# Altium integrated library Allegro Sensor Hall-Effect Sensor.IntLib: 112 symbols (part 1 of 2)
Pins are listed as number, name and electrical type; pins without a type are passive.

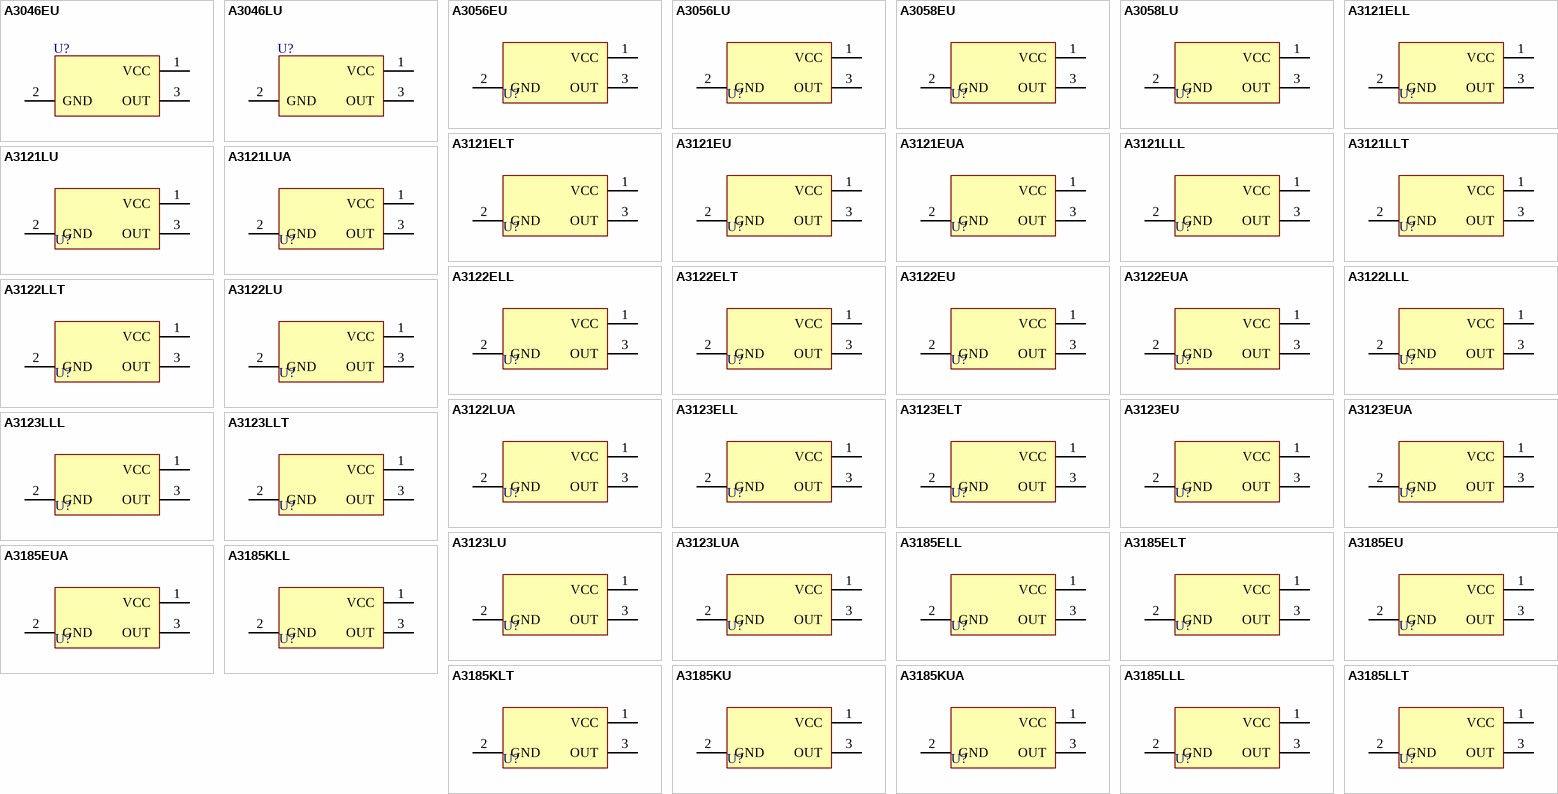
[diagram p0: symbols A3046EU to A3185LLT]

## A3046EU
designator U?
Hall-Effect Gear-Tooth Zero Speed Sensor; ComponentAvailability: Obsolete; Published: 13-Oct-2000; LatestRevisionDate: 17-Jul-2002; LatestRevisionNote: Re-released for DXP Platform.; DatasheetVersion: 1995; PackageVersion: 1995; PackageReference: U3; Publisher: Altium Limited; PackageDescription: SIP; 3 Leads; Body 4.5 x 4.6 x 1.6 mm (typ); Pitch 1.27 mm; ComponentLink1Description: Manufacturer Link; ComponentLink1URL: http://www.allegromicro.com/; ComponentLink2Description: Datasheet; ComponentLink2URL: http://www.allegromicro.com/datafile/archive/3046.pdf
footprint U3 (SIP; 3 Leads; Body 4.5 x 4.6 x 1.6 mm (typ); Pitch 1.27 mm)
pins: 1 VCC (power), 2 GND (power), 3 OUT (oc)

## A3046LU
designator U?
Hall-Effect Gear-Tooth Zero Speed Sensor; ComponentAvailability: Obsolete; Published: 13-Oct-2000; LatestRevisionDate: 17-Jul-2002; LatestRevisionNote: Re-released for DXP Platform.; DatasheetVersion: 1995; PackageVersion: 1995; PackageReference: U3; Publisher: Altium Limited; PackageDescription: SIP; 3 Leads; Body 4.5 x 4.6 x 1.6 mm (typ); Pitch 1.27 mm; ComponentLink1Description: Manufacturer Link; ComponentLink1URL: http://www.allegromicro.com/; ComponentLink2Description: Datasheet; ComponentLink2URL: http://www.allegromicro.com/datafile/archive/3046.pdf
footprint U3 (SIP; 3 Leads; Body 4.5 x 4.6 x 1.6 mm (typ); Pitch 1.27 mm)
pins: 1 VCC (power), 2 GND (power), 3 OUT (oc)

## A3056EU
designator U?
Hall-Effect Gear-Tooth Zero Speed Sensor; ComponentAvailability: Obsolete; Published: 13-Oct-2000; LatestRevisionDate: 17-Jul-2002; LatestRevisionNote: Re-released for DXP Platform.; DatasheetVersion: 1995; PackageVersion: 1995; PackageReference: U3; Publisher: Altium Limited; PackageDescription: SIP; 3 Leads; Body 4.5 x 4.6 x 1.6 mm (typ); Pitch 1.27 mm; ComponentLink1Description: Manufacturer Link; ComponentLink1URL: http://www.allegromicro.com/; ComponentLink2Description: Datasheet; ComponentLink2URL: http://www.allegromicro.com/datafile/archive/3046.pdf
footprint U3 (SIP; 3 Leads; Body 4.5 x 4.6 x 1.6 mm (typ); Pitch 1.27 mm)
pins: 1 VCC (power), 2 GND (power), 3 OUT (oc)

## A3056LU
designator U?
Hall-Effect Gear-Tooth Zero Speed Sensor; ComponentAvailability: Obsolete; Published: 13-Oct-2000; LatestRevisionDate: 17-Jul-2002; LatestRevisionNote: Re-released for DXP Platform.; DatasheetVersion: 1995; PackageVersion: 1995; PackageReference: U3; Publisher: Altium Limited; PackageDescription: SIP; 3 Leads; Body 4.5 x 4.6 x 1.6 mm (typ); Pitch 1.27 mm; ComponentLink1Description: Manufacturer Link; ComponentLink1URL: http://www.allegromicro.com/; ComponentLink2Description: Datasheet; ComponentLink2URL: http://www.allegromicro.com/datafile/archive/3046.pdf
footprint U3 (SIP; 3 Leads; Body 4.5 x 4.6 x 1.6 mm (typ); Pitch 1.27 mm)
pins: 1 VCC (power), 2 GND (power), 3 OUT (oc)

## A3058EU
designator U?
Hall-Effect Gear-Tooth Zero Speed Sensor; ComponentAvailability: Obsolete; Published: 13-Oct-2000; LatestRevisionDate: 17-Jul-2002; LatestRevisionNote: Re-released for DXP Platform.; DatasheetVersion: 1995; PackageVersion: 1995; PackageReference: U3; Publisher: Altium Limited; PackageDescription: SIP; 3 Leads; Body 4.5 x 4.6 x 1.6 mm (typ); Pitch 1.27 mm; ComponentLink1Description: Manufacturer Link; ComponentLink1URL: http://www.allegromicro.com/; ComponentLink2Description: Datasheet; ComponentLink2URL: http://www.allegromicro.com/datafile/archive/3046.pdf
footprint U3 (SIP; 3 Leads; Body 4.5 x 4.6 x 1.6 mm (typ); Pitch 1.27 mm)
pins: 1 VCC (power), 2 GND (power), 3 OUT (oc)

## A3058LU
designator U?
Hall-Effect Gear-Tooth Zero Speed Sensor; ComponentAvailability: Obsolete; Published: 13-Oct-2000; LatestRevisionDate: 17-Jul-2002; LatestRevisionNote: Re-released for DXP Platform.; DatasheetVersion: 1995; PackageVersion: 1995; PackageReference: U3; Publisher: Altium Limited; PackageDescription: SIP; 3 Leads; Body 4.5 x 4.6 x 1.6 mm (typ); Pitch 1.27 mm; ComponentLink1Description: Manufacturer Link; ComponentLink1URL: http://www.allegromicro.com/; ComponentLink2Description: Datasheet; ComponentLink2URL: http://www.allegromicro.com/datafile/archive/3046.pdf
footprint U3 (SIP; 3 Leads; Body 4.5 x 4.6 x 1.6 mm (typ); Pitch 1.27 mm)
pins: 1 VCC (power), 2 GND (power), 3 OUT (oc)

## A3121ELL
designator U?
Hall-Effect Switch for High-Temperature Operation; ComponentAvailability: Not for New Design; Published: 13-Oct-2000; LatestRevisionDate: 17-Jul-2002; LatestRevisionNote: Re-released for DXP Platform.; DatasheetVersion: 1995; PackageVersion: 1995; PackageReference: LL3; Publisher: Altium Limited; PackageDescription: SOT-89; Body 4.6 x 18.5 mm, inc. leads (LxW max); ComponentLink1Description: Manufacturer Link; ComponentLink1URL: http://www.allegromicro.com/; ComponentLink2Description: Datasheet; ComponentLink2URL: http://www.allegromicro.com/datafile/3121.pdf; ComponentLink3Description: Discontinuation Notice; ComponentLink3URL: http://www.allegromicro.com/sf/3121/
footprint LL3 (SOT-89; Body 4.6 x 18.5 mm, inc. leads (LxW max))
pins: 1 VCC (power), 2 GND (power), 3 OUT (oc)

## A3121ELT
designator U?
Hall-Effect Switch for High-Temperature Operation; ComponentAvailability: Not for New Design; Published: 13-Oct-2000; LatestRevisionDate: 17-Jul-2002; LatestRevisionNote: Re-released for DXP Platform.; DatasheetVersion: 1995; PackageVersion: 1995; PackageReference: LT3; Publisher: Altium Limited; PackageDescription: SOT-89; Body 4.6 x 4.25 mm, inc. leads (LxW max); Code_JEDEC: TO-243-AA; Code_IPC: SOT 89; ComponentLink1Description: Manufacturer Link; ComponentLink1URL: http://www.allegromicro.com/; ComponentLink2Description: Datasheet; ComponentLink2URL: http://www.allegromicro.com/datafile/3121.pdf; ComponentLink3Description: Discontinuation Notice; ComponentLink3URL: http://www.allegromicro.com/sf/3121/
footprint LT3 (SOT-89; Body 4.6 x 4.25 mm, inc. leads (LxW max))
pins: 1 VCC (power), 2 GND (power), 3 OUT (oc)

## A3121EU
designator U?
Hall-Effect Switch for High-Temperature Operation; ComponentAvailability: Not for New Design; Published: 13-Oct-2000; LatestRevisionDate: 17-Jul-2002; LatestRevisionNote: Re-released for DXP Platform.; DatasheetVersion: 1995; PackageVersion: 1995; PackageReference: U3; Publisher: Altium Limited; PackageDescription: SIP; 3 Leads; Body 4.5 x 4.6 x 1.6 mm (typ); Pitch 1.27 mm; ComponentLink1Description: Manufacturer Link; ComponentLink1URL: http://www.allegromicro.com/; ComponentLink2Description: Datasheet; ComponentLink2URL: http://www.allegromicro.com/datafile/3121.pdf; ComponentLink3Description: Discontinuation Notice; ComponentLink3URL: http://www.allegromicro.com/sf/3121/
footprint U3 (SIP; 3 Leads; Body 4.5 x 4.6 x 1.6 mm (typ); Pitch 1.27 mm)
pins: 1 VCC (power), 2 GND (power), 3 OUT (oc)

## A3121EUA
designator U?
Hall-Effect Switch for High-Temperature Operation; ComponentAvailability: Not for New Design; Published: 13-Oct-2000; LatestRevisionDate: 17-Jul-2002; LatestRevisionNote: Re-released for DXP Platform.; DatasheetVersion: 1995; PackageVersion: 1995; PackageReference: UA3; Publisher: Altium Limited; PackageDescription: SIP; 3 Leads; Body 3 x 4 x 1.5 mm (typ); Pitch 1.27 mm; ComponentLink1Description: Manufacturer Link; ComponentLink1URL: http://www.allegromicro.com/; ComponentLink2Description: Datasheet; ComponentLink2URL: http://www.allegromicro.com/datafile/3121.pdf; ComponentLink3Description: Discontinuation Notice; ComponentLink3URL: http://www.allegromicro.com/sf/3121/
footprint UA3 (SIP; 3 Leads; Body 3 x 4 x 1.5 mm (typ); Pitch 1.27 mm)
pins: 1 VCC (power), 2 GND (power), 3 OUT (oc)

## A3121LLL
designator U?
Hall-Effect Switch for High-Temperature Operation; ComponentAvailability: Not for New Design; Published: 13-Oct-2000; LatestRevisionDate: 17-Jul-2002; LatestRevisionNote: Re-released for DXP Platform.; DatasheetVersion: 1995; PackageVersion: 1995; PackageReference: LL3; Publisher: Altium Limited; PackageDescription: SOT-89; Body 4.6 x 18.5 mm, inc. leads (LxW max); ComponentLink1Description: Manufacturer Link; ComponentLink1URL: http://www.allegromicro.com/; ComponentLink2Description: Datasheet; ComponentLink2URL: http://www.allegromicro.com/datafile/3121.pdf; ComponentLink3Description: Discontinuation Notice; ComponentLink3URL: http://www.allegromicro.com/sf/3121/
footprint LL3 (SOT-89; Body 4.6 x 18.5 mm, inc. leads (LxW max))
pins: 1 VCC (power), 2 GND (power), 3 OUT (oc)

## A3121LLT
designator U?
Hall-Effect Switch for High-Temperature Operation; ComponentAvailability: Not for New Design; Published: 13-Oct-2000; LatestRevisionDate: 17-Jul-2002; LatestRevisionNote: Re-released for DXP Platform.; DatasheetVersion: 1995; PackageVersion: 1995; PackageReference: LT3; Publisher: Altium Limited; PackageDescription: SOT-89; Body 4.6 x 4.25 mm, inc. leads (LxW max); Code_JEDEC: TO-243-AA; Code_IPC: SOT 89; ComponentLink1Description: Manufacturer Link; ComponentLink1URL: http://www.allegromicro.com/; ComponentLink2Description: Datasheet; ComponentLink2URL: http://www.allegromicro.com/datafile/3121.pdf; ComponentLink3Description: Discontinuation Notice; ComponentLink3URL: http://www.allegromicro.com/sf/3121/
footprint LT3 (SOT-89; Body 4.6 x 4.25 mm, inc. leads (LxW max))
pins: 1 VCC (power), 2 GND (power), 3 OUT (oc)

## A3121LU
designator U?
Hall-Effect Switch for High-Temperature Operation; ComponentAvailability: Not for New Design; Published: 13-Oct-2000; LatestRevisionDate: 17-Jul-2002; LatestRevisionNote: Re-released for DXP Platform.; DatasheetVersion: 1995; PackageVersion: 1995; PackageReference: U3; Publisher: Altium Limited; PackageDescription: SIP; 3 Leads; Body 4.5 x 4.6 x 1.6 mm (typ); Pitch 1.27 mm; ComponentLink1Description: Manufacturer Link; ComponentLink1URL: http://www.allegromicro.com/; ComponentLink2Description: Datasheet; ComponentLink2URL: http://www.allegromicro.com/datafile/3121.pdf; ComponentLink3Description: Discontinuation Notice; ComponentLink3URL: http://www.allegromicro.com/sf/3121/
footprint U3 (SIP; 3 Leads; Body 4.5 x 4.6 x 1.6 mm (typ); Pitch 1.27 mm)
pins: 1 VCC (power), 2 GND (power), 3 OUT (oc)

## A3121LUA
designator U?
Hall-Effect Switch for High-Temperature Operation; ComponentAvailability: Not for New Design; Published: 13-Oct-2000; LatestRevisionDate: 17-Jul-2002; LatestRevisionNote: Re-released for DXP Platform.; DatasheetVersion: 1995; PackageVersion: 1995; PackageReference: UA3; Publisher: Altium Limited; PackageDescription: SIP; 3 Leads; Body 3 x 4 x 1.5 mm (typ); Pitch 1.27 mm; ComponentLink1Description: Manufacturer Link; ComponentLink1URL: http://www.allegromicro.com/; ComponentLink2Description: Datasheet; ComponentLink2URL: http://www.allegromicro.com/datafile/3121.pdf; ComponentLink3Description: Discontinuation Notice; ComponentLink3URL: http://www.allegromicro.com/sf/3121/
footprint UA3 (SIP; 3 Leads; Body 3 x 4 x 1.5 mm (typ); Pitch 1.27 mm)
pins: 1 VCC (power), 2 GND (power), 3 OUT (oc)

## A3122ELL
designator U?
Hall-Effect Switch for High-Temperature Operation; ComponentAvailability: Not for New Design; Published: 13-Oct-2000; LatestRevisionDate: 17-Jul-2002; LatestRevisionNote: Re-released for DXP Platform.; DatasheetVersion: 1995; PackageVersion: 1995; PackageReference: LL3; Publisher: Altium Limited; PackageDescription: SOT-89; Body 4.6 x 18.5 mm, inc. leads (LxW max); ComponentLink1Description: Manufacturer Link; ComponentLink1URL: http://www.allegromicro.com/; ComponentLink2Description: Datasheet; ComponentLink2URL: http://www.allegromicro.com/datafile/3121.pdf; ComponentLink3Description: Discontinuation Notice; ComponentLink3URL: http://www.allegromicro.com/sf/3121/
footprint LL3 (SOT-89; Body 4.6 x 18.5 mm, inc. leads (LxW max))
pins: 1 VCC (power), 2 GND (power), 3 OUT (oc)

## A3122ELT
designator U?
Hall-Effect Switch for High-Temperature Operation; ComponentAvailability: Not for New Design; Published: 13-Oct-2000; LatestRevisionDate: 17-Jul-2002; LatestRevisionNote: Re-released for DXP Platform.; DatasheetVersion: 1995; PackageVersion: 1995; PackageReference: LT3; Publisher: Altium Limited; PackageDescription: SOT-89; Body 4.6 x 4.25 mm, inc. leads (LxW max); Code_JEDEC: TO-243-AA; Code_IPC: SOT 89; ComponentLink1Description: Manufacturer Link; ComponentLink1URL: http://www.allegromicro.com/; ComponentLink2Description: Datasheet; ComponentLink2URL: http://www.allegromicro.com/datafile/3121.pdf; ComponentLink3Description: Discontinuation Notice; ComponentLink3URL: http://www.allegromicro.com/sf/3121/
footprint LT3 (SOT-89; Body 4.6 x 4.25 mm, inc. leads (LxW max))
pins: 1 VCC (power), 2 GND (power), 3 OUT (oc)

## A3122EU
designator U?
Hall-Effect Switch for High-Temperature Operation; ComponentAvailability: Not for New Design; Published: 13-Oct-2000; LatestRevisionDate: 17-Jul-2002; LatestRevisionNote: Re-released for DXP Platform.; DatasheetVersion: 1995; PackageVersion: 1995; PackageReference: U3; Publisher: Altium Limited; PackageDescription: SIP; 3 Leads; Body 4.5 x 4.6 x 1.6 mm (typ); Pitch 1.27 mm; ComponentLink1Description: Manufacturer Link; ComponentLink1URL: http://www.allegromicro.com/; ComponentLink2Description: Datasheet; ComponentLink2URL: http://www.allegromicro.com/datafile/3121.pdf; ComponentLink3Description: Discontinuation Notice; ComponentLink3URL: http://www.allegromicro.com/sf/3121/
footprint U3 (SIP; 3 Leads; Body 4.5 x 4.6 x 1.6 mm (typ); Pitch 1.27 mm)
pins: 1 VCC (power), 2 GND (power), 3 OUT (oc)

## A3122EUA
designator U?
Hall-Effect Switch for High-Temperature Operation; ComponentAvailability: Not for New Design; Published: 13-Oct-2000; LatestRevisionDate: 17-Jul-2002; LatestRevisionNote: Re-released for DXP Platform.; DatasheetVersion: 1995; PackageVersion: 1995; PackageReference: UA3; Publisher: Altium Limited; PackageDescription: SIP; 3 Leads; Body 3 x 4 x 1.5 mm (typ); Pitch 1.27 mm; ComponentLink1Description: Manufacturer Link; ComponentLink1URL: http://www.allegromicro.com/; ComponentLink2Description: Datasheet; ComponentLink2URL: http://www.allegromicro.com/datafile/3121.pdf; ComponentLink3Description: Discontinuation Notice; ComponentLink3URL: http://www.allegromicro.com/sf/3121/
footprint UA3 (SIP; 3 Leads; Body 3 x 4 x 1.5 mm (typ); Pitch 1.27 mm)
pins: 1 VCC (power), 2 GND (power), 3 OUT (oc)

## A3122LLL
designator U?
Hall-Effect Switch for High-Temperature Operation; ComponentAvailability: Not for New Design; Published: 13-Oct-2000; LatestRevisionDate: 17-Jul-2002; LatestRevisionNote: Re-released for DXP Platform.; DatasheetVersion: 1995; PackageVersion: 1995; PackageReference: LL3; Publisher: Altium Limited; PackageDescription: SOT-89; Body 4.6 x 18.5 mm, inc. leads (LxW max); ComponentLink1Description: Manufacturer Link; ComponentLink1URL: http://www.allegromicro.com/; ComponentLink2Description: Datasheet; ComponentLink2URL: http://www.allegromicro.com/datafile/3121.pdf; ComponentLink3Description: Discontinuation Notice; ComponentLink3URL: http://www.allegromicro.com/sf/3121/
footprint LL3 (SOT-89; Body 4.6 x 18.5 mm, inc. leads (LxW max))
pins: 1 VCC (power), 2 GND (power), 3 OUT (oc)

## A3122LLT
designator U?
Hall-Effect Switch for High-Temperature Operation; ComponentAvailability: Not for New Design; Published: 13-Oct-2000; LatestRevisionDate: 17-Jul-2002; LatestRevisionNote: Re-released for DXP Platform.; DatasheetVersion: 1995; PackageVersion: 1995; PackageReference: LT3; Publisher: Altium Limited; PackageDescription: SOT-89; Body 4.6 x 4.25 mm, inc. leads (LxW max); Code_JEDEC: TO-243-AA; Code_IPC: SOT 89; ComponentLink1Description: Manufacturer Link; ComponentLink1URL: http://www.allegromicro.com/; ComponentLink2Description: Datasheet; ComponentLink2URL: http://www.allegromicro.com/datafile/3121.pdf; ComponentLink3Description: Discontinuation Notice; ComponentLink3URL: http://www.allegromicro.com/sf/3121/
footprint LT3 (SOT-89; Body 4.6 x 4.25 mm, inc. leads (LxW max))
pins: 1 VCC (power), 2 GND (power), 3 OUT (oc)

## A3122LU
designator U?
Hall-Effect Switch for High-Temperature Operation; ComponentAvailability: Not for New Design; Published: 13-Oct-2000; LatestRevisionDate: 17-Jul-2002; LatestRevisionNote: Re-released for DXP Platform.; DatasheetVersion: 1995; PackageVersion: 1995; PackageReference: U3; Publisher: Altium Limited; PackageDescription: SIP; 3 Leads; Body 4.5 x 4.6 x 1.6 mm (typ); Pitch 1.27 mm; ComponentLink1Description: Manufacturer Link; ComponentLink1URL: http://www.allegromicro.com/; ComponentLink2Description: Datasheet; ComponentLink2URL: http://www.allegromicro.com/datafile/3121.pdf; ComponentLink3Description: Discontinuation Notice; ComponentLink3URL: http://www.allegromicro.com/sf/3121/
footprint U3 (SIP; 3 Leads; Body 4.5 x 4.6 x 1.6 mm (typ); Pitch 1.27 mm)
pins: 1 VCC (power), 2 GND (power), 3 OUT (oc)

## A3122LUA
designator U?
Hall-Effect Switch for High-Temperature Operation; ComponentAvailability: Not for New Design; Published: 13-Oct-2000; LatestRevisionDate: 17-Jul-2002; LatestRevisionNote: Re-released for DXP Platform.; DatasheetVersion: 1995; PackageVersion: 1995; PackageReference: UA3; Publisher: Altium Limited; PackageDescription: SIP; 3 Leads; Body 3 x 4 x 1.5 mm (typ); Pitch 1.27 mm; ComponentLink1Description: Manufacturer Link; ComponentLink1URL: http://www.allegromicro.com/; ComponentLink2Description: Datasheet; ComponentLink2URL: http://www.allegromicro.com/datafile/3121.pdf; ComponentLink3Description: Discontinuation Notice; ComponentLink3URL: http://www.allegromicro.com/sf/3121/
footprint UA3 (SIP; 3 Leads; Body 3 x 4 x 1.5 mm (typ); Pitch 1.27 mm)
pins: 1 VCC (power), 2 GND (power), 3 OUT (oc)

## A3123ELL
designator U?
Hall-Effect Switch for High-Temperature Operation; ComponentAvailability: Not for New Design; Published: 13-Oct-2000; LatestRevisionDate: 17-Jul-2002; LatestRevisionNote: Re-released for DXP Platform.; DatasheetVersion: 1995; PackageVersion: 1995; PackageReference: LL3; Publisher: Altium Limited; PackageDescription: SOT-89; Body 4.6 x 18.5 mm, inc. leads (LxW max); ComponentLink1Description: Manufacturer Link; ComponentLink1URL: http://www.allegromicro.com/; ComponentLink2Description: Datasheet; ComponentLink2URL: http://www.allegromicro.com/datafile/3121.pdf; ComponentLink3Description: Discontinuation Notice; ComponentLink3URL: http://www.allegromicro.com/sf/3121/
footprint LL3 (SOT-89; Body 4.6 x 18.5 mm, inc. leads (LxW max))
pins: 1 VCC (power), 2 GND (power), 3 OUT (oc)

## A3123ELT
designator U?
Hall-Effect Switch for High-Temperature Operation; ComponentAvailability: Not for New Design; Published: 13-Oct-2000; LatestRevisionDate: 17-Jul-2002; LatestRevisionNote: Re-released for DXP Platform.; DatasheetVersion: 1995; PackageVersion: 1995; PackageReference: LT3; Publisher: Altium Limited; PackageDescription: SOT-89; Body 4.6 x 4.25 mm, inc. leads (LxW max); Code_JEDEC: TO-243-AA; Code_IPC: SOT 89; ComponentLink1Description: Manufacturer Link; ComponentLink1URL: http://www.allegromicro.com/; ComponentLink2Description: Datasheet; ComponentLink2URL: http://www.allegromicro.com/datafile/3121.pdf; ComponentLink3Description: Discontinuation Notice; ComponentLink3URL: http://www.allegromicro.com/sf/3121/
footprint LT3 (SOT-89; Body 4.6 x 4.25 mm, inc. leads (LxW max))
pins: 1 VCC (power), 2 GND (power), 3 OUT (oc)

## A3123EU
designator U?
Hall-Effect Switch for High-Temperature Operation; ComponentAvailability: Not for New Design; Published: 13-Oct-2000; LatestRevisionDate: 17-Jul-2002; LatestRevisionNote: Re-released for DXP Platform.; DatasheetVersion: 1995; PackageVersion: 1995; PackageReference: U3; Publisher: Altium Limited; PackageDescription: SIP; 3 Leads; Body 4.5 x 4.6 x 1.6 mm (typ); Pitch 1.27 mm; ComponentLink1Description: Manufacturer Link; ComponentLink1URL: http://www.allegromicro.com/; ComponentLink2Description: Datasheet; ComponentLink2URL: http://www.allegromicro.com/datafile/3121.pdf; ComponentLink3Description: Discontinuation Notice; ComponentLink3URL: http://www.allegromicro.com/sf/3121/
footprint U3 (SIP; 3 Leads; Body 4.5 x 4.6 x 1.6 mm (typ); Pitch 1.27 mm)
pins: 1 VCC (power), 2 GND (power), 3 OUT (oc)

## A3123EUA
designator U?
Hall-Effect Switch for High-Temperature Operation; ComponentAvailability: Not for New Design; Published: 13-Oct-2000; LatestRevisionDate: 17-Jul-2002; LatestRevisionNote: Re-released for DXP Platform.; DatasheetVersion: 1995; PackageVersion: 1995; PackageReference: UA3; Publisher: Altium Limited; PackageDescription: SIP; 3 Leads; Body 3 x 4 x 1.5 mm (typ); Pitch 1.27 mm; ComponentLink1Description: Manufacturer Link; ComponentLink1URL: http://www.allegromicro.com/; ComponentLink2Description: Datasheet; ComponentLink2URL: http://www.allegromicro.com/datafile/3121.pdf; ComponentLink3Description: Discontinuation Notice; ComponentLink3URL: http://www.allegromicro.com/sf/3121/
footprint UA3 (SIP; 3 Leads; Body 3 x 4 x 1.5 mm (typ); Pitch 1.27 mm)
pins: 1 VCC (power), 2 GND (power), 3 OUT (oc)

## A3123LLL
designator U?
Hall-Effect Switch for High-Temperature Operation; ComponentAvailability: Not for New Design; Published: 13-Oct-2000; LatestRevisionDate: 17-Jul-2002; LatestRevisionNote: Re-released for DXP Platform.; DatasheetVersion: 1995; PackageVersion: 1995; PackageReference: LL3; Publisher: Altium Limited; PackageDescription: SOT-89; Body 4.6 x 18.5 mm, inc. leads (LxW max); ComponentLink1Description: Manufacturer Link; ComponentLink1URL: http://www.allegromicro.com/; ComponentLink2Description: Datasheet; ComponentLink2URL: http://www.allegromicro.com/datafile/3121.pdf; ComponentLink3Description: Discontinuation Notice; ComponentLink3URL: http://www.allegromicro.com/sf/3121/
footprint LL3 (SOT-89; Body 4.6 x 18.5 mm, inc. leads (LxW max))
pins: 1 VCC (power), 2 GND (power), 3 OUT (oc)

## A3123LLT
designator U?
Hall-Effect Switch for High-Temperature Operation; ComponentAvailability: Not for New Design; Published: 13-Oct-2000; LatestRevisionDate: 17-Jul-2002; LatestRevisionNote: Re-released for DXP Platform.; DatasheetVersion: 1995; PackageVersion: 1995; PackageReference: LT3; Publisher: Altium Limited; PackageDescription: SOT-89; Body 4.6 x 4.25 mm, inc. leads (LxW max); Code_JEDEC: TO-243-AA; Code_IPC: SOT 89; ComponentLink1Description: Manufacturer Link; ComponentLink1URL: http://www.allegromicro.com/; ComponentLink2Description: Datasheet; ComponentLink2URL: http://www.allegromicro.com/datafile/3121.pdf; ComponentLink3Description: Discontinuation Notice; ComponentLink3URL: http://www.allegromicro.com/sf/3121/
footprint LT3 (SOT-89; Body 4.6 x 4.25 mm, inc. leads (LxW max))
pins: 1 VCC (power), 2 GND (power), 3 OUT (oc)

## A3123LU
designator U?
Hall-Effect Switch for High-Temperature Operation; ComponentAvailability: Not for New Design; Published: 13-Oct-2000; LatestRevisionDate: 17-Jul-2002; LatestRevisionNote: Re-released for DXP Platform.; DatasheetVersion: 1995; PackageVersion: 1995; PackageReference: U3; Publisher: Altium Limited; PackageDescription: SIP; 3 Leads; Body 4.5 x 4.6 x 1.6 mm (typ); Pitch 1.27 mm; ComponentLink1Description: Manufacturer Link; ComponentLink1URL: http://www.allegromicro.com/; ComponentLink2Description: Datasheet; ComponentLink2URL: http://www.allegromicro.com/datafile/3121.pdf; ComponentLink3Description: Discontinuation Notice; ComponentLink3URL: http://www.allegromicro.com/sf/3121/
footprint U3 (SIP; 3 Leads; Body 4.5 x 4.6 x 1.6 mm (typ); Pitch 1.27 mm)
pins: 1 VCC (power), 2 GND (power), 3 OUT (oc)

## A3123LUA
designator U?
Hall-Effect Switch for High-Temperature Operation; ComponentAvailability: Not for New Design; Published: 13-Oct-2000; LatestRevisionDate: 17-Jul-2002; LatestRevisionNote: Re-released for DXP Platform.; DatasheetVersion: 1995; PackageVersion: 1995; PackageReference: UA3; Publisher: Altium Limited; PackageDescription: SIP; 3 Leads; Body 3 x 4 x 1.5 mm (typ); Pitch 1.27 mm; ComponentLink1Description: Manufacturer Link; ComponentLink1URL: http://www.allegromicro.com/; ComponentLink2Description: Datasheet; ComponentLink2URL: http://www.allegromicro.com/datafile/3121.pdf; ComponentLink3Description: Discontinuation Notice; ComponentLink3URL: http://www.allegromicro.com/sf/3121/
footprint UA3 (SIP; 3 Leads; Body 3 x 4 x 1.5 mm (typ); Pitch 1.27 mm)
pins: 1 VCC (power), 2 GND (power), 3 OUT (oc)

## A3185ELL
designator U?
Hall-Effect Latch for High-Temperature Operation; ComponentAvailability: Not for New Design; Published: 13-Oct-2000; LatestRevisionDate: 17-Jul-2002; LatestRevisionNote: Re-released for DXP Platform.; DatasheetVersion: 1995; PackageVersion: 1995; PackageReference: LL3; Publisher: Altium Limited; PackageDescription: SOT-89; Body 4.6 x 18.5 mm, inc. leads (LxW max); ComponentLink1Description: Manufacturer Link; ComponentLink1URL: http://www.allegromicro.com/; ComponentLink2Description: Datasheet; ComponentLink2URL: http://www.allegromicro.com/datafile/3185.pdf; ComponentLink3Description: Discontinuation Notice; ComponentLink3URL: http://www.allegromicro.com/sf/3185/
footprint LL3 (SOT-89; Body 4.6 x 18.5 mm, inc. leads (LxW max))
pins: 1 VCC (power), 2 GND (power), 3 OUT (oc)

## A3185ELT
designator U?
Hall-Effect Latch for High-Temperature Operation; ComponentAvailability: Not for New Design; Published: 13-Oct-2000; LatestRevisionDate: 17-Jul-2002; LatestRevisionNote: Re-released for DXP Platform.; DatasheetVersion: 1995; PackageVersion: 1995; PackageReference: LT3; Publisher: Altium Limited; PackageDescription: SOT-89; Body 4.6 x 4.25 mm, inc. leads (LxW max); Code_JEDEC: TO-243-AA; Code_IPC: SOT 89; ComponentLink1Description: Manufacturer Link; ComponentLink1URL: http://www.allegromicro.com/; ComponentLink2Description: Datasheet; ComponentLink2URL: http://www.allegromicro.com/datafile/3185.pdf; ComponentLink3Description: Discontinuation Notice; ComponentLink3URL: http://www.allegromicro.com/sf/3185/
footprint LT3 (SOT-89; Body 4.6 x 4.25 mm, inc. leads (LxW max))
pins: 1 VCC (power), 2 GND (power), 3 OUT (oc)

## A3185EU
designator U?
Hall-Effect Latch for High-Temperature Operation; ComponentAvailability: Not for New Design; Published: 13-Oct-2000; LatestRevisionDate: 17-Jul-2002; LatestRevisionNote: Re-released for DXP Platform.; DatasheetVersion: 1995; PackageVersion: 1995; PackageReference: U3; Publisher: Altium Limited; PackageDescription: SIP; 3 Leads; Body 4.5 x 4.6 x 1.6 mm (typ); Pitch 1.27 mm; ComponentLink1Description: Manufacturer Link; ComponentLink1URL: http://www.allegromicro.com/; ComponentLink2Description: Datasheet; ComponentLink2URL: http://www.allegromicro.com/datafile/3185.pdf; ComponentLink3Description: Discontinuation Notice; ComponentLink3URL: http://www.allegromicro.com/sf/3185/
footprint U3 (SIP; 3 Leads; Body 4.5 x 4.6 x 1.6 mm (typ); Pitch 1.27 mm)
pins: 1 VCC (power), 2 GND (power), 3 OUT (oc)

## A3185EUA
designator U?
Hall-Effect Latch for High-Temperature Operation; ComponentAvailability: Not for New Design; Published: 13-Oct-2000; LatestRevisionDate: 17-Jul-2002; LatestRevisionNote: Re-released for DXP Platform.; DatasheetVersion: 1995; PackageVersion: 1995; PackageReference: UA3; Publisher: Altium Limited; PackageDescription: SIP; 3 Leads; Body 3 x 4 x 1.5 mm (typ); Pitch 1.27 mm; ComponentLink1Description: Manufacturer Link; ComponentLink1URL: http://www.allegromicro.com/; ComponentLink2Description: Datasheet; ComponentLink2URL: http://www.allegromicro.com/datafile/3185.pdf; ComponentLink3Description: Discontinuation Notice; ComponentLink3URL: http://www.allegromicro.com/sf/3185/
footprint UA3 (SIP; 3 Leads; Body 3 x 4 x 1.5 mm (typ); Pitch 1.27 mm)
pins: 1 VCC (power), 2 GND (power), 3 OUT (oc)

## A3185KLL
designator U?
Hall-Effect Latch for High-Temperature Operation; ComponentAvailability: Not for New Design; Published: 13-Oct-2000; LatestRevisionDate: 17-Jul-2002; LatestRevisionNote: Re-released for DXP Platform.; DatasheetVersion: 1995; PackageVersion: 1995; PackageReference: LL3; Publisher: Altium Limited; PackageDescription: SOT-89; Body 4.6 x 18.5 mm, inc. leads (LxW max); ComponentLink1Description: Manufacturer Link; ComponentLink1URL: http://www.allegromicro.com/; ComponentLink2Description: Datasheet; ComponentLink2URL: http://www.allegromicro.com/datafile/3185.pdf; ComponentLink3Description: Discontinuation Notice; ComponentLink3URL: http://www.allegromicro.com/sf/3185/
footprint LL3 (SOT-89; Body 4.6 x 18.5 mm, inc. leads (LxW max))
pins: 1 VCC (power), 2 GND (power), 3 OUT (oc)

## A3185KLT
designator U?
Hall-Effect Latch for High-Temperature Operation; ComponentAvailability: Not for New Design; Published: 13-Oct-2000; LatestRevisionDate: 17-Jul-2002; LatestRevisionNote: Re-released for DXP Platform.; DatasheetVersion: 1995; PackageVersion: 1995; PackageReference: LT3; Publisher: Altium Limited; PackageDescription: SOT-89; Body 4.6 x 4.25 mm, inc. leads (LxW max); Code_JEDEC: TO-243-AA; Code_IPC: SOT 89; ComponentLink1Description: Manufacturer Link; ComponentLink1URL: http://www.allegromicro.com/; ComponentLink2Description: Datasheet; ComponentLink2URL: http://www.allegromicro.com/datafile/3185.pdf; ComponentLink3Description: Discontinuation Notice; ComponentLink3URL: http://www.allegromicro.com/sf/3185/
footprint LT3 (SOT-89; Body 4.6 x 4.25 mm, inc. leads (LxW max))
pins: 1 VCC (power), 2 GND (power), 3 OUT (oc)

## A3185KU
designator U?
Hall-Effect Latch for High-Temperature Operation; ComponentAvailability: Not for New Design; Published: 13-Oct-2000; LatestRevisionDate: 17-Jul-2002; LatestRevisionNote: Re-released for DXP Platform.; DatasheetVersion: 1995; PackageVersion: 1995; PackageReference: U3; Publisher: Altium Limited; PackageDescription: SIP; 3 Leads; Body 4.5 x 4.6 x 1.6 mm (typ); Pitch 1.27 mm; ComponentLink1Description: Manufacturer Link; ComponentLink1URL: http://www.allegromicro.com/; ComponentLink2Description: Datasheet; ComponentLink2URL: http://www.allegromicro.com/datafile/3185.pdf; ComponentLink3Description: Discontinuation Notice; ComponentLink3URL: http://www.allegromicro.com/sf/3185/
footprint U3 (SIP; 3 Leads; Body 4.5 x 4.6 x 1.6 mm (typ); Pitch 1.27 mm)
pins: 1 VCC (power), 2 GND (power), 3 OUT (oc)

## A3185KUA
designator U?
Hall-Effect Latch for High-Temperature Operation; ComponentAvailability: Not for New Design; Published: 13-Oct-2000; LatestRevisionDate: 17-Jul-2002; LatestRevisionNote: Re-released for DXP Platform.; DatasheetVersion: 1995; PackageVersion: 1995; PackageReference: UA3; Publisher: Altium Limited; PackageDescription: SIP; 3 Leads; Body 3 x 4 x 1.5 mm (typ); Pitch 1.27 mm; ComponentLink1Description: Manufacturer Link; ComponentLink1URL: http://www.allegromicro.com/; ComponentLink2Description: Datasheet; ComponentLink2URL: http://www.allegromicro.com/datafile/3185.pdf; ComponentLink3Description: Discontinuation Notice; ComponentLink3URL: http://www.allegromicro.com/sf/3185/
footprint UA3 (SIP; 3 Leads; Body 3 x 4 x 1.5 mm (typ); Pitch 1.27 mm)
pins: 1 VCC (power), 2 GND (power), 3 OUT (oc)

## A3185LLL
designator U?
Hall-Effect Latch for High-Temperature Operation; ComponentAvailability: Not for New Design; Published: 13-Oct-2000; LatestRevisionDate: 17-Jul-2002; LatestRevisionNote: Re-released for DXP Platform.; DatasheetVersion: 1995; PackageVersion: 1995; PackageReference: LL3; Publisher: Altium Limited; PackageDescription: SOT-89; Body 4.6 x 18.5 mm, inc. leads (LxW max); ComponentLink1Description: Manufacturer Link; ComponentLink1URL: http://www.allegromicro.com/; ComponentLink2Description: Datasheet; ComponentLink2URL: http://www.allegromicro.com/datafile/3185.pdf; ComponentLink3Description: Discontinuation Notice; ComponentLink3URL: http://www.allegromicro.com/sf/3185/
footprint LL3 (SOT-89; Body 4.6 x 18.5 mm, inc. leads (LxW max))
pins: 1 VCC (power), 2 GND (power), 3 OUT (oc)

## A3185LLT
designator U?
Hall-Effect Latch for High-Temperature Operation; ComponentAvailability: Not for New Design; Published: 13-Oct-2000; LatestRevisionDate: 17-Jul-2002; LatestRevisionNote: Re-released for DXP Platform.; DatasheetVersion: 1995; PackageVersion: 1995; PackageReference: LT3; Publisher: Altium Limited; PackageDescription: SOT-89; Body 4.6 x 4.25 mm, inc. leads (LxW max); Code_JEDEC: TO-243-AA; Code_IPC: SOT 89; ComponentLink1Description: Manufacturer Link; ComponentLink1URL: http://www.allegromicro.com/; ComponentLink2Description: Datasheet; ComponentLink2URL: http://www.allegromicro.com/datafile/3185.pdf; ComponentLink3Description: Discontinuation Notice; ComponentLink3URL: http://www.allegromicro.com/sf/3185/
footprint LT3 (SOT-89; Body 4.6 x 4.25 mm, inc. leads (LxW max))
pins: 1 VCC (power), 2 GND (power), 3 OUT (oc)

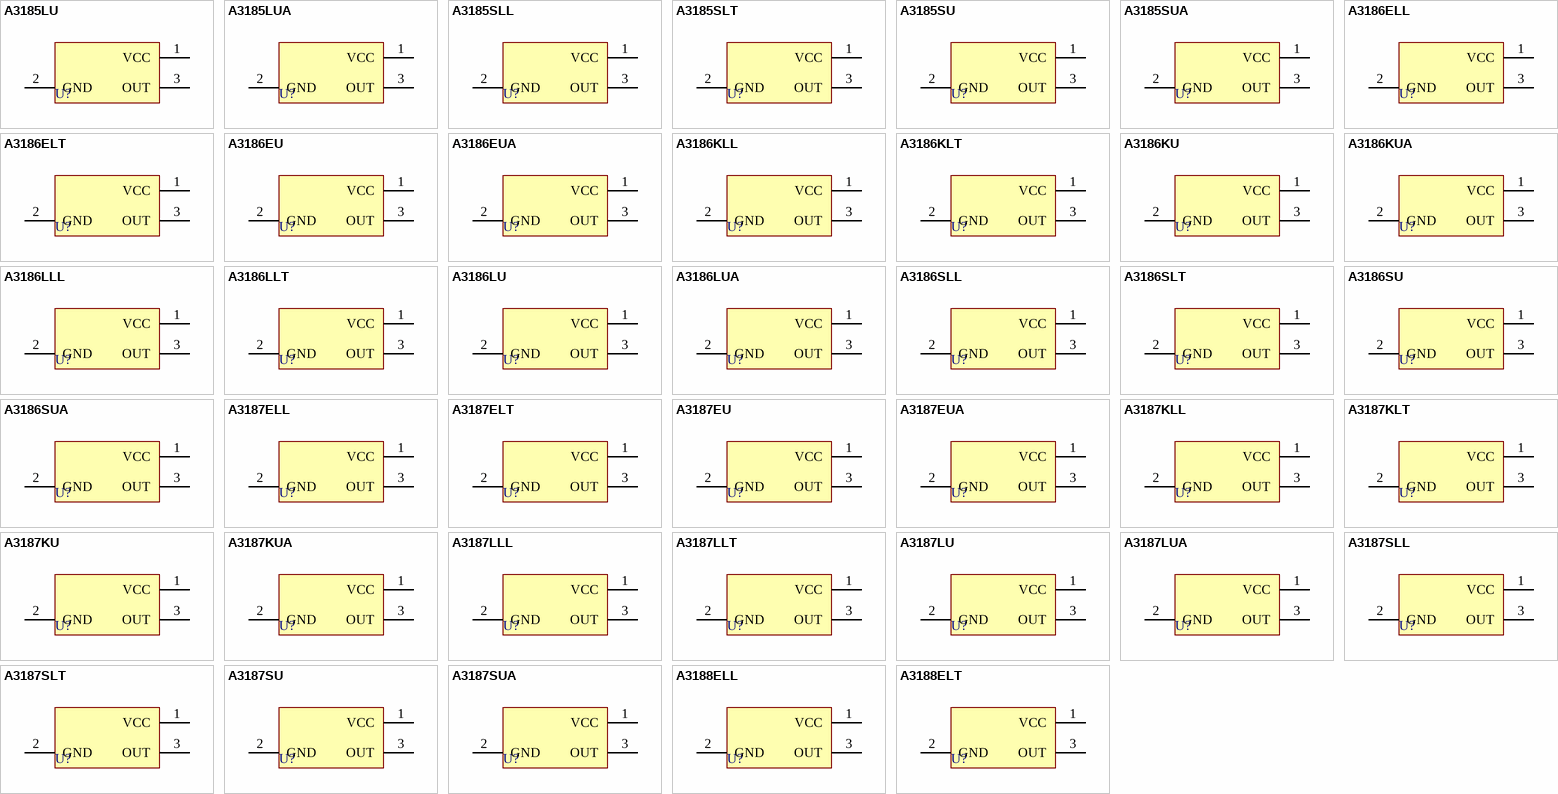
[diagram p1: symbols A3185LU to A3188ELT]

## A3185LU
designator U?
Hall-Effect Latch for High-Temperature Operation; ComponentAvailability: Not for New Design; Published: 13-Oct-2000; LatestRevisionDate: 17-Jul-2002; LatestRevisionNote: Re-released for DXP Platform.; DatasheetVersion: 1995; PackageVersion: 1995; PackageReference: U3; Publisher: Altium Limited; PackageDescription: SIP; 3 Leads; Body 4.5 x 4.6 x 1.6 mm (typ); Pitch 1.27 mm; ComponentLink1Description: Manufacturer Link; ComponentLink1URL: http://www.allegromicro.com/; ComponentLink2Description: Datasheet; ComponentLink2URL: http://www.allegromicro.com/datafile/3185.pdf; ComponentLink3Description: Discontinuation Notice; ComponentLink3URL: http://www.allegromicro.com/sf/3185/
footprint U3 (SIP; 3 Leads; Body 4.5 x 4.6 x 1.6 mm (typ); Pitch 1.27 mm)
pins: 1 VCC (power), 2 GND (power), 3 OUT (oc)

## A3185LUA
designator U?
Hall-Effect Latch for High-Temperature Operation; ComponentAvailability: Not for New Design; Published: 13-Oct-2000; LatestRevisionDate: 17-Jul-2002; LatestRevisionNote: Re-released for DXP Platform.; DatasheetVersion: 1995; PackageVersion: 1995; PackageReference: UA3; Publisher: Altium Limited; PackageDescription: SIP; 3 Leads; Body 3 x 4 x 1.5 mm (typ); Pitch 1.27 mm; ComponentLink1Description: Manufacturer Link; ComponentLink1URL: http://www.allegromicro.com/; ComponentLink2Description: Datasheet; ComponentLink2URL: http://www.allegromicro.com/datafile/3185.pdf; ComponentLink3Description: Discontinuation Notice; ComponentLink3URL: http://www.allegromicro.com/sf/3185/
footprint UA3 (SIP; 3 Leads; Body 3 x 4 x 1.5 mm (typ); Pitch 1.27 mm)
pins: 1 VCC (power), 2 GND (power), 3 OUT (oc)

## A3185SLL
designator U?
Hall-Effect Latch for High-Temperature Operation; ComponentAvailability: Not for New Design; Published: 13-Oct-2000; LatestRevisionDate: 17-Jul-2002; LatestRevisionNote: Re-released for DXP Platform.; DatasheetVersion: 1995; PackageVersion: 1995; PackageReference: LL3; Publisher: Altium Limited; PackageDescription: SOT-89; Body 4.6 x 18.5 mm, inc. leads (LxW max); ComponentLink1Description: Manufacturer Link; ComponentLink1URL: http://www.allegromicro.com/; ComponentLink2Description: Datasheet; ComponentLink2URL: http://www.allegromicro.com/datafile/3185.pdf; ComponentLink3Description: Discontinuation Notice; ComponentLink3URL: http://www.allegromicro.com/sf/3185/
footprint LL3 (SOT-89; Body 4.6 x 18.5 mm, inc. leads (LxW max))
pins: 1 VCC (power), 2 GND (power), 3 OUT (oc)

## A3185SLT
designator U?
Hall-Effect Latch for High-Temperature Operation; ComponentAvailability: Not for New Design; Published: 13-Oct-2000; LatestRevisionDate: 17-Jul-2002; LatestRevisionNote: Re-released for DXP Platform.; DatasheetVersion: 1995; PackageVersion: 1995; PackageReference: LT3; Publisher: Altium Limited; PackageDescription: SOT-89; Body 4.6 x 4.25 mm, inc. leads (LxW max); Code_JEDEC: TO-243-AA; Code_IPC: SOT 89; ComponentLink1Description: Manufacturer Link; ComponentLink1URL: http://www.allegromicro.com/; ComponentLink2Description: Datasheet; ComponentLink2URL: http://www.allegromicro.com/datafile/3185.pdf; ComponentLink3Description: Discontinuation Notice; ComponentLink3URL: http://www.allegromicro.com/sf/3185/
footprint LT3 (SOT-89; Body 4.6 x 4.25 mm, inc. leads (LxW max))
pins: 1 VCC (power), 2 GND (power), 3 OUT (oc)

## A3185SU
designator U?
Hall-Effect Latch for High-Temperature Operation; ComponentAvailability: Not for New Design; Published: 13-Oct-2000; LatestRevisionDate: 17-Jul-2002; LatestRevisionNote: Re-released for DXP Platform.; DatasheetVersion: 1995; PackageVersion: 1995; PackageReference: U3; Publisher: Altium Limited; PackageDescription: SIP; 3 Leads; Body 4.5 x 4.6 x 1.6 mm (typ); Pitch 1.27 mm; ComponentLink1Description: Manufacturer Link; ComponentLink1URL: http://www.allegromicro.com/; ComponentLink2Description: Datasheet; ComponentLink2URL: http://www.allegromicro.com/datafile/3185.pdf; ComponentLink3Description: Discontinuation Notice; ComponentLink3URL: http://www.allegromicro.com/sf/3185/
footprint U3 (SIP; 3 Leads; Body 4.5 x 4.6 x 1.6 mm (typ); Pitch 1.27 mm)
pins: 1 VCC (power), 2 GND (power), 3 OUT (oc)

## A3185SUA
designator U?
Hall-Effect Latch for High-Temperature Operation; ComponentAvailability: Not for New Design; Published: 13-Oct-2000; LatestRevisionDate: 17-Jul-2002; LatestRevisionNote: Re-released for DXP Platform.; DatasheetVersion: 1995; PackageVersion: 1995; PackageReference: UA3; Publisher: Altium Limited; PackageDescription: SIP; 3 Leads; Body 3 x 4 x 1.5 mm (typ); Pitch 1.27 mm; ComponentLink1Description: Manufacturer Link; ComponentLink1URL: http://www.allegromicro.com/; ComponentLink2Description: Datasheet; ComponentLink2URL: http://www.allegromicro.com/datafile/3185.pdf; ComponentLink3Description: Discontinuation Notice; ComponentLink3URL: http://www.allegromicro.com/sf/3185/
footprint UA3 (SIP; 3 Leads; Body 3 x 4 x 1.5 mm (typ); Pitch 1.27 mm)
pins: 1 VCC (power), 2 GND (power), 3 OUT (oc)

## A3186ELL
designator U?
Hall-Effect Latch for High-Temperature Operation; ComponentAvailability: Not for New Design; Published: 13-Oct-2000; LatestRevisionDate: 17-Jul-2002; LatestRevisionNote: Re-released for DXP Platform.; DatasheetVersion: 1995; PackageVersion: 1995; PackageReference: LL3; Publisher: Altium Limited; PackageDescription: SOT-89; Body 4.6 x 18.5 mm, inc. leads (LxW max); ComponentLink1Description: Manufacturer Link; ComponentLink1URL: http://www.allegromicro.com/; ComponentLink2Description: Datasheet; ComponentLink2URL: http://www.allegromicro.com/datafile/3185.pdf; ComponentLink3Description: Discontinuation Notice; ComponentLink3URL: http://www.allegromicro.com/sf/3185/
footprint LL3 (SOT-89; Body 4.6 x 18.5 mm, inc. leads (LxW max))
pins: 1 VCC (power), 2 GND (power), 3 OUT (oc)

## A3186ELT
designator U?
Hall-Effect Latch for High-Temperature Operation; ComponentAvailability: Not for New Design; Published: 13-Oct-2000; LatestRevisionDate: 17-Jul-2002; LatestRevisionNote: Re-released for DXP Platform.; DatasheetVersion: 1995; PackageVersion: 1995; PackageReference: LT3; Publisher: Altium Limited; PackageDescription: SOT-89; Body 4.6 x 4.25 mm, inc. leads (LxW max); Code_JEDEC: TO-243-AA; Code_IPC: SOT 89; ComponentLink1Description: Manufacturer Link; ComponentLink1URL: http://www.allegromicro.com/; ComponentLink2Description: Datasheet; ComponentLink2URL: http://www.allegromicro.com/datafile/3185.pdf; ComponentLink3Description: Discontinuation Notice; ComponentLink3URL: http://www.allegromicro.com/sf/3185/
footprint LT3 (SOT-89; Body 4.6 x 4.25 mm, inc. leads (LxW max))
pins: 1 VCC (power), 2 GND (power), 3 OUT (oc)

## A3186EU
designator U?
Hall-Effect Latch for High-Temperature Operation; ComponentAvailability: Not for New Design; Published: 13-Oct-2000; LatestRevisionDate: 17-Jul-2002; LatestRevisionNote: Re-released for DXP Platform.; DatasheetVersion: 1995; PackageVersion: 1995; PackageReference: U3; Publisher: Altium Limited; PackageDescription: SIP; 3 Leads; Body 4.5 x 4.6 x 1.6 mm (typ); Pitch 1.27 mm; ComponentLink1Description: Manufacturer Link; ComponentLink1URL: http://www.allegromicro.com/; ComponentLink2Description: Datasheet; ComponentLink2URL: http://www.allegromicro.com/datafile/3185.pdf; ComponentLink3Description: Discontinuation Notice; ComponentLink3URL: http://www.allegromicro.com/sf/3185/
footprint U3 (SIP; 3 Leads; Body 4.5 x 4.6 x 1.6 mm (typ); Pitch 1.27 mm)
pins: 1 VCC (power), 2 GND (power), 3 OUT (oc)

## A3186EUA
designator U?
Hall-Effect Latch for High-Temperature Operation; ComponentAvailability: Not for New Design; Published: 13-Oct-2000; LatestRevisionDate: 17-Jul-2002; LatestRevisionNote: Re-released for DXP Platform.; DatasheetVersion: 1995; PackageVersion: 1995; PackageReference: UA3; Publisher: Altium Limited; PackageDescription: SIP; 3 Leads; Body 3 x 4 x 1.5 mm (typ); Pitch 1.27 mm; ComponentLink1Description: Manufacturer Link; ComponentLink1URL: http://www.allegromicro.com/; ComponentLink2Description: Datasheet; ComponentLink2URL: http://www.allegromicro.com/datafile/3185.pdf; ComponentLink3Description: Discontinuation Notice; ComponentLink3URL: http://www.allegromicro.com/sf/3185/
footprint UA3 (SIP; 3 Leads; Body 3 x 4 x 1.5 mm (typ); Pitch 1.27 mm)
pins: 1 VCC (power), 2 GND (power), 3 OUT (oc)

## A3186KLL
designator U?
Hall-Effect Latch for High-Temperature Operation; ComponentAvailability: Not for New Design; Published: 13-Oct-2000; LatestRevisionDate: 17-Jul-2002; LatestRevisionNote: Re-released for DXP Platform.; DatasheetVersion: 1995; PackageVersion: 1995; PackageReference: LL3; Publisher: Altium Limited; PackageDescription: SOT-89; Body 4.6 x 18.5 mm, inc. leads (LxW max); ComponentLink1Description: Manufacturer Link; ComponentLink1URL: http://www.allegromicro.com/; ComponentLink2Description: Datasheet; ComponentLink2URL: http://www.allegromicro.com/datafile/3185.pdf; ComponentLink3Description: Discontinuation Notice; ComponentLink3URL: http://www.allegromicro.com/sf/3185/
footprint LL3 (SOT-89; Body 4.6 x 18.5 mm, inc. leads (LxW max))
pins: 1 VCC (power), 2 GND (power), 3 OUT (oc)

## A3186KLT
designator U?
Hall-Effect Latch for High-Temperature Operation; ComponentAvailability: Not for New Design; Published: 13-Oct-2000; LatestRevisionDate: 17-Jul-2002; LatestRevisionNote: Re-released for DXP Platform.; DatasheetVersion: 1995; PackageVersion: 1995; PackageReference: LT3; Publisher: Altium Limited; PackageDescription: SOT-89; Body 4.6 x 4.25 mm, inc. leads (LxW max); Code_JEDEC: TO-243-AA; Code_IPC: SOT 89; ComponentLink1Description: Manufacturer Link; ComponentLink1URL: http://www.allegromicro.com/; ComponentLink2Description: Datasheet; ComponentLink2URL: http://www.allegromicro.com/datafile/3185.pdf; ComponentLink3Description: Discontinuation Notice; ComponentLink3URL: http://www.allegromicro.com/sf/3185/
footprint LT3 (SOT-89; Body 4.6 x 4.25 mm, inc. leads (LxW max))
pins: 1 VCC (power), 2 GND (power), 3 OUT (oc)

## A3186KU
designator U?
Hall-Effect Latch for High-Temperature Operation; ComponentAvailability: Not for New Design; Published: 13-Oct-2000; LatestRevisionDate: 17-Jul-2002; LatestRevisionNote: Re-released for DXP Platform.; DatasheetVersion: 1995; PackageVersion: 1995; PackageReference: U3; Publisher: Altium Limited; PackageDescription: SIP; 3 Leads; Body 4.5 x 4.6 x 1.6 mm (typ); Pitch 1.27 mm; ComponentLink1Description: Manufacturer Link; ComponentLink1URL: http://www.allegromicro.com/; ComponentLink2Description: Datasheet; ComponentLink2URL: http://www.allegromicro.com/datafile/3185.pdf; ComponentLink3Description: Discontinuation Notice; ComponentLink3URL: http://www.allegromicro.com/sf/3185/
footprint U3 (SIP; 3 Leads; Body 4.5 x 4.6 x 1.6 mm (typ); Pitch 1.27 mm)
pins: 1 VCC (power), 2 GND (power), 3 OUT (oc)

## A3186KUA
designator U?
Hall-Effect Latch for High-Temperature Operation; ComponentAvailability: Not for New Design; Published: 13-Oct-2000; LatestRevisionDate: 17-Jul-2002; LatestRevisionNote: Re-released for DXP Platform.; DatasheetVersion: 1995; PackageVersion: 1995; PackageReference: UA3; Publisher: Altium Limited; PackageDescription: SIP; 3 Leads; Body 3 x 4 x 1.5 mm (typ); Pitch 1.27 mm; ComponentLink1Description: Manufacturer Link; ComponentLink1URL: http://www.allegromicro.com/; ComponentLink2Description: Datasheet; ComponentLink2URL: http://www.allegromicro.com/datafile/3185.pdf; ComponentLink3Description: Discontinuation Notice; ComponentLink3URL: http://www.allegromicro.com/sf/3185/
footprint UA3 (SIP; 3 Leads; Body 3 x 4 x 1.5 mm (typ); Pitch 1.27 mm)
pins: 1 VCC (power), 2 GND (power), 3 OUT (oc)

## A3186LLL
designator U?
Hall-Effect Latch for High-Temperature Operation; ComponentAvailability: Not for New Design; Published: 13-Oct-2000; LatestRevisionDate: 17-Jul-2002; LatestRevisionNote: Re-released for DXP Platform.; DatasheetVersion: 1995; PackageVersion: 1995; PackageReference: LL3; Publisher: Altium Limited; PackageDescription: SOT-89; Body 4.6 x 18.5 mm, inc. leads (LxW max); ComponentLink1Description: Manufacturer Link; ComponentLink1URL: http://www.allegromicro.com/; ComponentLink2Description: Datasheet; ComponentLink2URL: http://www.allegromicro.com/datafile/3185.pdf; ComponentLink3Description: Discontinuation Notice; ComponentLink3URL: http://www.allegromicro.com/sf/3185/
footprint LL3 (SOT-89; Body 4.6 x 18.5 mm, inc. leads (LxW max))
pins: 1 VCC (power), 2 GND (power), 3 OUT (oc)

## A3186LLT
designator U?
Hall-Effect Latch for High-Temperature Operation; ComponentAvailability: Not for New Design; Published: 13-Oct-2000; LatestRevisionDate: 17-Jul-2002; LatestRevisionNote: Re-released for DXP Platform.; DatasheetVersion: 1995; PackageVersion: 1995; PackageReference: LT3; Publisher: Altium Limited; PackageDescription: SOT-89; Body 4.6 x 4.25 mm, inc. leads (LxW max); Code_JEDEC: TO-243-AA; Code_IPC: SOT 89; ComponentLink1Description: Manufacturer Link; ComponentLink1URL: http://www.allegromicro.com/; ComponentLink2Description: Datasheet; ComponentLink2URL: http://www.allegromicro.com/datafile/3185.pdf; ComponentLink3Description: Discontinuation Notice; ComponentLink3URL: http://www.allegromicro.com/sf/3185/
footprint LT3 (SOT-89; Body 4.6 x 4.25 mm, inc. leads (LxW max))
pins: 1 VCC (power), 2 GND (power), 3 OUT (oc)

## A3186LU
designator U?
Hall-Effect Latch for High-Temperature Operation; ComponentAvailability: Not for New Design; Published: 13-Oct-2000; LatestRevisionDate: 17-Jul-2002; LatestRevisionNote: Re-released for DXP Platform.; DatasheetVersion: 1995; PackageVersion: 1995; PackageReference: U3; Publisher: Altium Limited; PackageDescription: SIP; 3 Leads; Body 4.5 x 4.6 x 1.6 mm (typ); Pitch 1.27 mm; ComponentLink1Description: Manufacturer Link; ComponentLink1URL: http://www.allegromicro.com/; ComponentLink2Description: Datasheet; ComponentLink2URL: http://www.allegromicro.com/datafile/3185.pdf; ComponentLink3Description: Discontinuation Notice; ComponentLink3URL: http://www.allegromicro.com/sf/3185/
footprint U3 (SIP; 3 Leads; Body 4.5 x 4.6 x 1.6 mm (typ); Pitch 1.27 mm)
pins: 1 VCC (power), 2 GND (power), 3 OUT (oc)

## A3186LUA
designator U?
Hall-Effect Latch for High-Temperature Operation; ComponentAvailability: Not for New Design; Published: 13-Oct-2000; LatestRevisionDate: 17-Jul-2002; LatestRevisionNote: Re-released for DXP Platform.; DatasheetVersion: 1995; PackageVersion: 1995; PackageReference: UA3; Publisher: Altium Limited; PackageDescription: SIP; 3 Leads; Body 3 x 4 x 1.5 mm (typ); Pitch 1.27 mm; ComponentLink1Description: Manufacturer Link; ComponentLink1URL: http://www.allegromicro.com/; ComponentLink2Description: Datasheet; ComponentLink2URL: http://www.allegromicro.com/datafile/3185.pdf; ComponentLink3Description: Discontinuation Notice; ComponentLink3URL: http://www.allegromicro.com/sf/3185/
footprint UA3 (SIP; 3 Leads; Body 3 x 4 x 1.5 mm (typ); Pitch 1.27 mm)
pins: 1 VCC (power), 2 GND (power), 3 OUT (oc)

## A3186SLL
designator U?
Hall-Effect Latch for High-Temperature Operation; ComponentAvailability: Not for New Design; Published: 13-Oct-2000; LatestRevisionDate: 17-Jul-2002; LatestRevisionNote: Re-released for DXP Platform.; DatasheetVersion: 1995; PackageVersion: 1995; PackageReference: LL3; Publisher: Altium Limited; PackageDescription: SOT-89; Body 4.6 x 18.5 mm, inc. leads (LxW max); ComponentLink1Description: Manufacturer Link; ComponentLink1URL: http://www.allegromicro.com/; ComponentLink2Description: Datasheet; ComponentLink2URL: http://www.allegromicro.com/datafile/3185.pdf; ComponentLink3Description: Discontinuation Notice; ComponentLink3URL: http://www.allegromicro.com/sf/3185/
footprint LL3 (SOT-89; Body 4.6 x 18.5 mm, inc. leads (LxW max))
pins: 1 VCC (power), 2 GND (power), 3 OUT (oc)

## A3186SLT
designator U?
Hall-Effect Latch for High-Temperature Operation; ComponentAvailability: Not for New Design; Published: 13-Oct-2000; LatestRevisionDate: 17-Jul-2002; LatestRevisionNote: Re-released for DXP Platform.; DatasheetVersion: 1995; PackageVersion: 1995; PackageReference: LT3; Publisher: Altium Limited; PackageDescription: SOT-89; Body 4.6 x 4.25 mm, inc. leads (LxW max); Code_JEDEC: TO-243-AA; Code_IPC: SOT 89; ComponentLink1Description: Manufacturer Link; ComponentLink1URL: http://www.allegromicro.com/; ComponentLink2Description: Datasheet; ComponentLink2URL: http://www.allegromicro.com/datafile/3185.pdf; ComponentLink3Description: Discontinuation Notice; ComponentLink3URL: http://www.allegromicro.com/sf/3185/
footprint LT3 (SOT-89; Body 4.6 x 4.25 mm, inc. leads (LxW max))
pins: 1 VCC (power), 2 GND (power), 3 OUT (oc)